# Altium footprint library MLACHT_Z.PCBLIB: 150 footprints (part 5 of 10)
Each footprint in its own frame and in the unit in brackets; x right, y up, seen from the top. Pads: shape width x height; smd on the part's side, far side on the other; paste and mask are expansions set on the pad; w line width, h text height; cw(c..) or ccw(c..) is an arc to the next point about the centre after c.
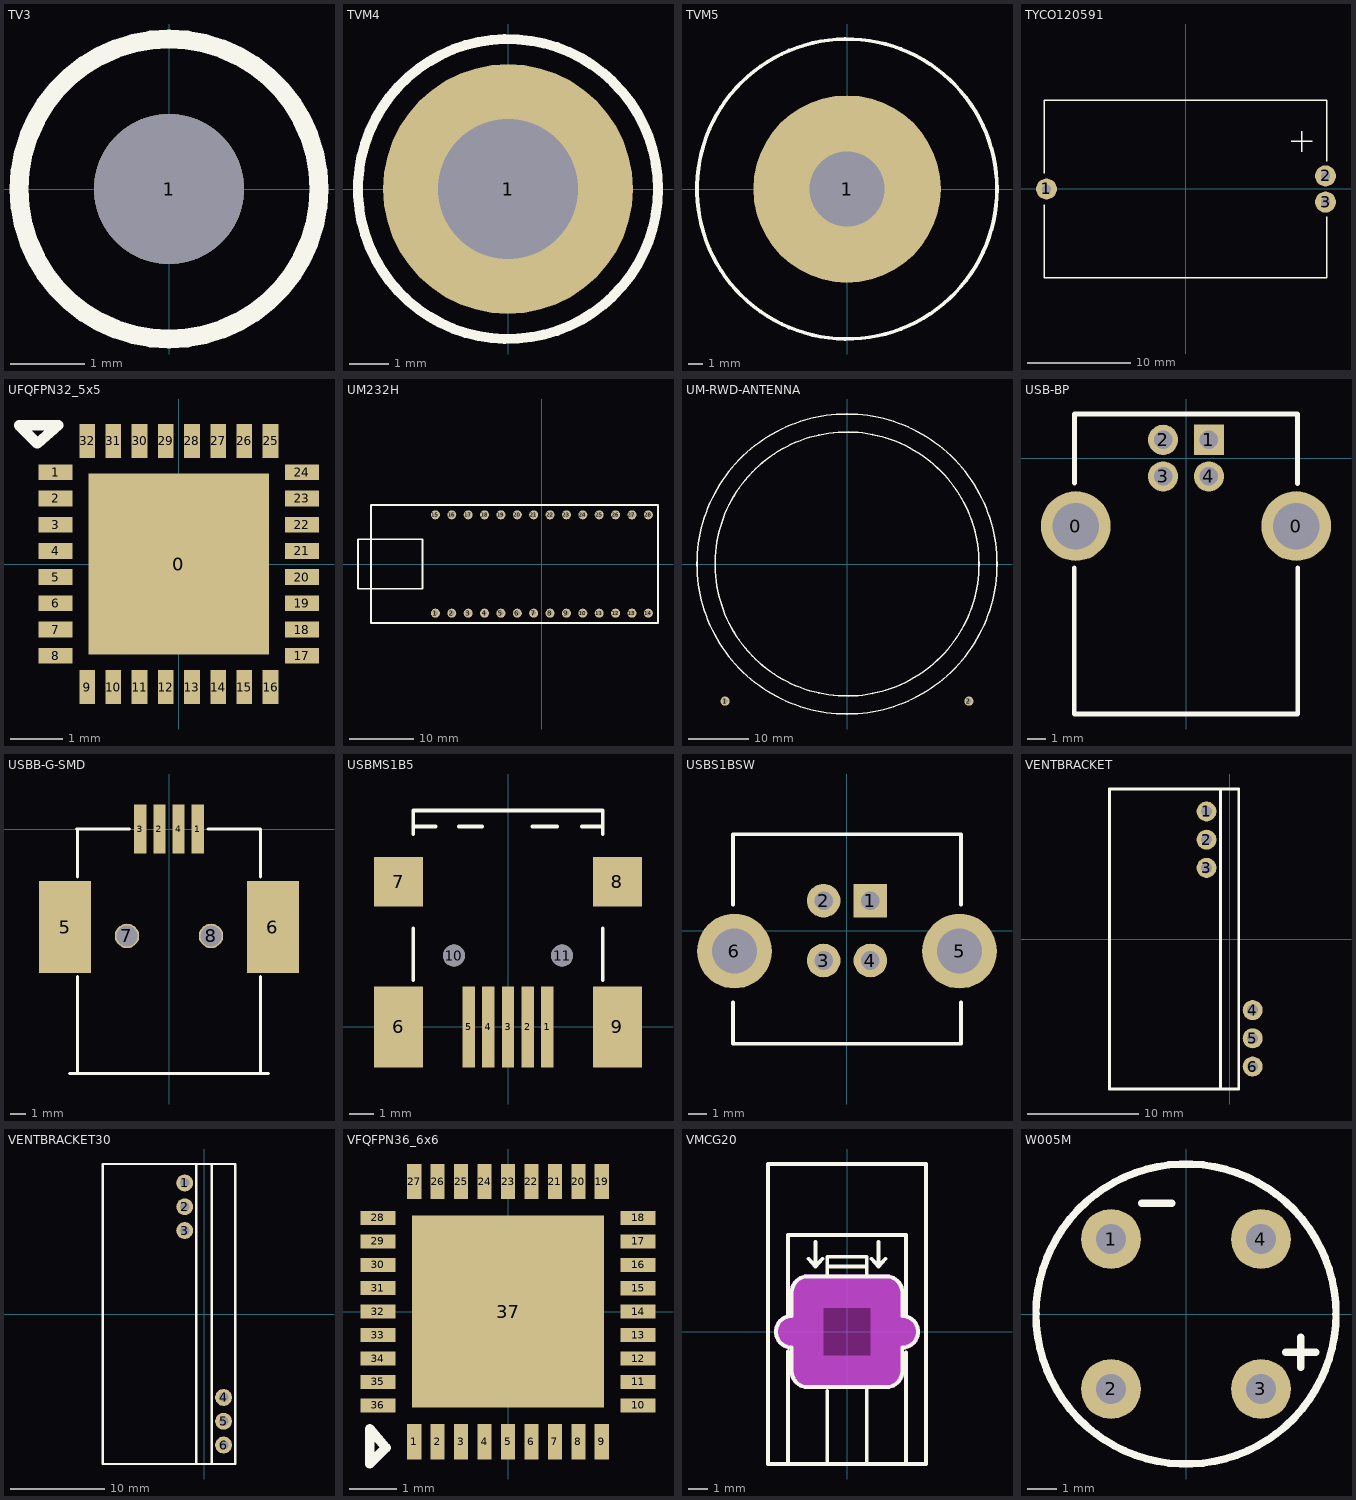
[diagram p4: the footprints below, top view; thin cyan lines are the x and y axes]

## TV3 [mil]
pads (1):
  round 80 hole 80: 1(0,0)
TopOverlay:
  circle w10: c0,0 r80

## TVM4 [mil]
pads (1):
  round 250 hole 140: 1(0,0)
TopOverlay:
  circle w10: c0,0 r150

## TVM5 [mil]
pads (1):
  round 500 hole 200: 1(0,0)
TopOverlay:
  circle w10: c0,0 r400

## TYCO120591 [mil]
pads (3):
  round 80 hole 35: 1(-531.5,0) 2(531.5,50) 3(531.5,-50)
TopOverlay:
  lines w5: -539.37,-59.06 -539.37,-338.58 535.43,-338.58 535.43,-106.3 ; -539.37,59.06 -539.37,338.58 535.43,338.58 535.43,106.3 ; 401.57,181.1 480.31,181.1 ; 440.94,141.73 440.94,220.47

## UFQFPN32_5x5 [mm]
pads (33):
  rect 3.45x3.45 smd paste-0.1: 0(0,0)
  rect 0.65x0.3 smd: 1(-2.35,1.75) 2(-2.35,1.25) 3(-2.35,0.75) 4(-2.35,0.25) 5(-2.35,-0.25) 6(-2.35,-0.75) 7(-2.35,-1.25) 8(-2.35,-1.75) 17(2.35,-1.75) 18(2.35,-1.25) 19(2.35,-0.75) 20(2.35,-0.25) 21(2.35,0.25) 22(2.35,0.75) 23(2.35,1.25) 24(2.35,1.75)
  rect 0.3x0.65 smd: 9(-1.75,-2.35) 10(-1.25,-2.35) 11(-0.75,-2.35) 12(-0.25,-2.35) 13(0.25,-2.35) 14(0.75,-2.35) 15(1.25,-2.35) 16(1.75,-2.35) 25(1.75,2.35) 26(1.25,2.35) 27(0.75,2.35) 28(0.25,2.35) 29(-0.25,2.35) 30(-0.75,2.35) 31(-1.25,2.35) 32(-1.75,2.35)
TopOverlay:
  lines w0.2: -3.05,2.65 -2.7,2.3 -2.3,2.65 -3.05,2.65
3D body: height 1, standoff 0, extent -2.5,-2.5 2.5,2.5

## UM232H [mm]
pads (28):
  round 1.4 hole 0.8: 1(-16.51,-7.62) 2(-13.97,-7.62) 3(-11.43,-7.62) 4(-8.89,-7.62) 5(-6.35,-7.62) 6(-3.81,-7.62) 7(-1.27,-7.62) 8(1.27,-7.62) 9(3.81,-7.62) 10(6.35,-7.62) 11(8.89,-7.62) 12(11.43,-7.62) 13(13.97,-7.62) 14(16.51,-7.62) 15(-16.51,7.62) 16(-13.97,7.62) 17(-11.43,7.62) 18(-8.89,7.62) 19(-6.35,7.62) 20(-3.81,7.62) 21(-1.27,7.62) 22(1.27,7.62) 23(3.81,7.62) 24(6.35,7.62) 25(8.89,7.62) 26(11.43,7.62) 27(13.97,7.62) 28(16.51,7.62)
TopOverlay:
  lines w0.25: -28.51,-3.85 -18.51,-3.85 -18.51,0 -18.51,3.85 -28.51,3.85 -28.51,-3.85
  lines w0.3: -26.51,-9.125 -26.51,9.125 18.01,9.125 18.01,-9.125 -26.51,-9.125
3D body: height 5.7, standoff -3, extent -16.91,7.24 -16.11,8.02
3D body: height 5.7, standoff -3, extent -14.37,7.24 -13.57,8.02
3D body: height 5.7, standoff -3, extent -11.83,7.24 -11.03,8.02
3D body: height 5.7, standoff -3, extent -9.29,7.24 -8.49,8.02
3D body: height 5.7, standoff -3, extent -6.75,7.24 -5.95,8.02
3D body: height 5.7, standoff -3, extent -4.21,7.24 -3.41,8.02
3D body: height 5.7, standoff -3, extent -1.67,7.24 -0.87,8.02
3D body: height 5.7, standoff -3, extent 0.87,7.24 1.67,8.02
3D body: height 5.7, standoff -3, extent 3.41,7.24 4.21,8.02
3D body: height 5.7, standoff -3, extent 5.95,7.24 6.75,8.02
3D body: height 5.7, standoff -3, extent 8.49,7.24 9.29,8.02
3D body: height 5.7, standoff -3, extent 11.03,7.24 11.83,8.02
3D body: height 5.7, standoff -3, extent 13.57,7.24 14.37,8.02
3D body: height 5.7, standoff -3, extent 16.11,7.24 16.91,8.02
3D body: height 5.7, standoff -3, extent 16.11,-8 16.91,-7.22
3D body: height 5.7, standoff -3, extent 13.57,-8 14.37,-7.22
3D body: height 5.7, standoff -3, extent 11.03,-8 11.83,-7.22
3D body: height 5.7, standoff -3, extent 8.49,-8 9.29,-7.22
3D body: height 5.7, standoff -3, extent 5.95,-8 6.75,-7.22
3D body: height 5.7, standoff -3, extent 3.41,-8 4.21,-7.22
3D body: height 5.7, standoff -3, extent 0.87,-8 1.67,-7.22
3D body: height 5.7, standoff -3, extent -1.67,-8 -0.87,-7.22
3D body: height 5.7, standoff -3, extent -4.21,-8 -3.41,-7.22
3D body: height 5.7, standoff -3, extent -6.75,-8 -5.95,-7.22
3D body: height 5.7, standoff -3, extent -9.29,-8 -8.49,-7.22
3D body: height 5.7, standoff -3, extent -11.83,-8 -11.03,-7.22
3D body: height 5.7, standoff -3, extent -14.37,-8 -13.57,-7.22
3D body: height 5.7, standoff -3, extent -16.91,-8 -16.11,-7.22
3D body: height 9.9, standoff 5.8, extent -28.51,-3.85 -18.51,3.85
3D body: height 7.5, standoff 5.8, extent -3.425,-3.425 3.475,3.475
3D body: height 5.8, standoff 4.2, extent -26.51,-9.125 18.01,9.125

## UM-RWD-ANTENNA [mil]
pads (2):
  round 60 hole 32: 1(-800,-900) 2(800,-900)
TopOverlay:
  circle w10: c0,0 r866.14
  circle w10: c0,0 r984.25

## USB-BP [mil]
pads (6):
  round 150 hole 100: 0(-237.8,-146.06) 0(236.22,-146.06)
  rect 65x65 hole 40: 1(48.42,39.37)
  round 65 hole 40: 2(-50,39.37) 3(-50,-39.37) 4(48.42,-39.37)
TopOverlay:
  lines w10: -240.94,-235.83 -240.94,-550.39 239.37,-550.39 239.37,-235.83 ; -240.55,-54.33 -240.55,94.88 238.98,94.88 238.98,-54.72

## USBB-G-SMD [mm]
pads (8):
  rect 0.8x3.2 smd: 1(1.875,0) 2(-0.625,0) 3(-1.875,0) 4(0.625,0)
  rect 3.4x6.04 smd: 5(-6.8,-6.42) 6(6.8,-6.42)
  round 1.6 hole 1.4: 7(-2.75,-7) 8(2.75,-7)
TopOverlay:
  lines w0.203: -6.5,-16 6.5,-16 ; -6.05,0 -2.6,0 ; -6,-16 -6,-9.65 ; -6,-3.15 -6,0 ; 2.55,0 6,0 6,-3.15 ; 6,-16 6,-9.65

## USBMS1B5 [mm]
pads (11):
  rect 0.5x3.3 smd: 1(1.6,0) 2(0.8,0) 3(0,0) 4(-0.8,0) 5(-1.6,0)
  rect 1.981x3.302 smd: 6(-4.45,0) 9(4.45,0)
  rect 1.981x2 smd: 7(-4.45,5.9) 8(4.45,5.9)
  round 0.889 hole 0.889: 10(-2.2,2.9) 11(2.2,2.9)
TopOverlay:
  lines w0.152: -3.85,1.9 -3.85,4 ; -3.85,7.85 -3.85,8.15 ; -2.95,8.15 -3.85,8.15 ; -2,8.15 -1.05,8.15 ; 1,8.15 2,8.15 ; 3,8.15 3.85,8.15 ; 3.85,1.9 3.85,4 ; 3.85,7.85 3.85,8.15 ; -3.85,8.15 -3.85,8.8 3.85,8.8 3.85,8.15
3D body: height 4.14, standoff -0.95, extent -4.95,-0.4 4.95,8.8

## USBS1BSW [mm]
pads (6):
  rect 1.8x1.8 hole 1: 1(1.25,1.6)
  round 1.8 hole 1: 2(-1.25,1.6) 3(-1.25,-1.6) 4(1.25,-1.6)
  round 4 hole 2.4: 5(6.02,-1.1) 6(-6.02,-1.1)
TopOverlay:
  lines w0.2: -6.1,-3.85 -6.1,-6.05 6.1,-6.05 6.1,-3.85 ; -6.1,1.4 -6.1,5.15 6.1,5.15 6.1,1.4
3D body: height 16.05, standoff 0, extent 0,-0.85 6.1,5.15
3D body: height 16.05, standoff 0, extent -6.1,-0.85 0,5.15
3D body: height 16.05, standoff 0, extent -6.1,-6.05 0,-0.05
3D body: height 16.05, standoff 0, extent 0,-6.05 6.1,-0.05
3D body: height 14, standoff 0, extent -2.9,-1.6 2.85,1.6
3D body: height 4, standoff 0, extent -6,-5.95 6,5.05
3D body: height 13.5, standoff 0, extent -1.55,-1.75 -0.9,-1.6
3D body: height 13.5, standoff 0, extent 0.95,-1.75 1.6,-1.6
3D body: height 13.5, standoff 0, extent 0.9,1.6 1.55,1.75
3D body: height 13.5, standoff 0, extent -1.6,1.6 -0.95,1.75

## VENTBRACKET [mm]
pads (6):
  round 1.8 hole 1: 1(-2.075,11.48) 2(-2.075,8.94) 3(-2.075,6.4) 4(2.075,-6.4) 5(2.075,-8.94) 6(2.075,-11.48)
TopOverlay:
  lines w0.25: -10.825,-13.5 -0.825,-13.5 ; -10.825,13.5 -0.825,13.5 ; -10.815,-13.5 -10.815,13.5 ; -0.825,-13.5 -0.825,13.5 ; -0.825,-13.5 0.825,-13.5 0.825,13.5 -0.825,13.5
3D body: height 32.93, standoff -5.91, extent -10.815,-13.5 3.382,13.5

## VENTBRACKET30 [mm]
pads (6):
  round 1.8 hole 1: 1(-2.075,13.98) 2(-2.075,11.44) 3(-2.075,8.9) 4(2.075,-8.9) 5(2.075,-11.44) 6(2.075,-13.98)
TopOverlay:
  lines w0.25: -10.825,-16 -0.825,-16 ; -10.825,16 -0.825,16 ; -10.815,-16 -10.815,16 ; -0.825,-16 0.825,-16 ; -0.825,-16 -0.825,16 ; -0.825,16 0.825,16 ; 0.825,-16 3.33,-16 3.33,16 0.825,16 ; 0.825,-16 0.825,16
3D body: height 37.9, standoff -5.94, extent -10.8,-16 3.345,16

## VFQFPN36_6x6 [mm]
pads (37):
  rect 0.3x0.75 smd: 1(-2,-2.775) 2(-1.5,-2.775) 3(-1,-2.775) 4(-0.5,-2.775) 5(0,-2.775) 6(0.5,-2.775) 7(1,-2.775) 8(1.5,-2.775) 9(2,-2.775) 19(2,2.775) 20(1.5,2.775) 21(1,2.775) 22(0.5,2.775) 23(0,2.775) 24(-0.5,2.775) 25(-1,2.775) 26(-1.5,2.775) 27(-2,2.775)
  rect 0.75x0.3 smd: 10(2.775,-2) 11(2.775,-1.5) 12(2.775,-1) 13(2.775,-0.5) 14(2.775,0) 15(2.775,0.5) 16(2.775,1) 17(2.775,1.5) 18(2.775,2) 28(-2.775,2) 29(-2.775,1.5) 30(-2.775,1) 31(-2.775,0.5) 32(-2.775,0) 33(-2.775,-0.5) 34(-2.775,-1) 35(-2.775,-1.5) 36(-2.775,-2)
  rect 4.1x4.1 smd: 37(0,0)
TopOverlay:
  lines w0.2: -2.95,-3.25 -2.6,-2.9 -2.95,-2.5 -2.95,-3.25
3D body: height 1, standoff 0, extent -3,-3 3,3

## VMCG20 [mil]
TopOverlay:
  lines w7.87: -118.11,-263.78 -118.11,-39.37 ; -118.11,35.43 -118.11,192.91 118.11,192.91 118.11,35.43 ; -76.77,145.67 -62.99,129.92 ; -62.99,179.13 -62.99,129.92 ; -49.21,145.67 -62.99,129.92 ; -39.37,-263.78 -39.37,-118.11 ; -39.37,114.17 -39.37,149.61 39.37,149.61 39.37,114.17 ; -39.37,129.92 39.37,129.92 ; 39.37,-263.78 39.37,-116.14 ; 49.21,145.67 62.99,129.92 ; 62.99,179.13 62.99,129.92 ; 76.77,145.67 62.99,129.92 ; 118.11,-263.78 118.11,-41.34 ; -110.24,31.5 ccw(c-110.24,0) -110.24,-31.5 -110.24,-78.74 ccw(c-78.74,-78.74) -78.74,-110.24 78.74,-110.24 ccw(c78.74,-78.74) 110.24,-78.74 110.24,-31.5 ; -110.24,31.5 -110.24,31.5 ; -110.24,31.5 -110.24,78.74 cw(c-78.74,78.74) -78.74,110.24 78.74,110.24 cw(c78.74,78.74) 110.24,78.74 110.24,31.5 cw(c110.24,0) 110.24,-31.5 ; 110.24,-31.5 110.24,-31.5 ; -157.48,-263.78 -157.48,334.65 157.48,334.65 157.48,-263.78 -157.48,-263.78
KeepOutLayer:
  board cut-out: -110.24,78.74 -108.27,90.55 -102.36,100.39 -96.46,106.3 -88.58,110.24 -78.74,110.24 78.74,110.24 94.49,106.3 104.33,96.46 108.27,88.58 110.24,78.74 110.24,31.5 120.08,29.53 129.92,23.62 137.8,15.75 141.73,5.91 141.73,-1.97 139.76,-13.78 135.83,-19.68 125.98,-27.56 110.24,-31.5 110.24,-78.74 108.27,-90.55 102.36,-100.39 94.49,-106.3 78.74,-110.24 -78.74,-110.24 -90.55,-108.27 -100.39,-102.36 -106.3,-94.49 -110.24,-78.74 -110.24,-31.5 -120.08,-29.53 -131.89,-23.62 -139.76,-13.78 -141.73,0 -141.73,7.87 -135.83,19.68 -120.08,29.53 -110.24,31.5
  lines w7.87: -110.24,-78.74 ccw(c-78.74,-78.74) -78.74,-110.24 78.74,-110.24 ccw(c78.74,-78.74) 110.24,-78.74 110.24,-31.5 ccw(c110.24,0) 110.24,31.5 110.24,78.74 ccw(c78.74,78.74) 78.74,110.24 -78.74,110.24 ccw(c-78.74,78.74) -110.24,78.74 -110.24,31.5 ccw(c-110.24,0) -110.24,-31.5 -110.24,-78.74
Obrys:
  lines w7.87: -110.24,-78.74 ccw(c-78.74,-78.74) -78.74,-110.24 78.74,-110.24 ccw(c78.74,-78.74) 110.24,-78.74 110.24,-31.5 ccw(c110.24,0) 110.24,31.5 110.24,78.74 ccw(c78.74,78.74) 78.74,110.24 -78.74,110.24 ccw(c-78.74,78.74) -110.24,78.74 -110.24,31.5 ccw(c-110.24,0) -110.24,-31.5 -110.24,-78.74
Mill (Mech19):
  lines w62.99: -108.27,0 -78.74,0 ; 78.74,0 108.27,0 ; -78.74,-78.74 78.74,-78.74 78.74,78.74 -78.74,78.74 -78.74,-78.74
3D body: height 846.46, standoff -157.48, extent -157.48,-263.78 157.48,334.65

## W005M [mil]
pads (4):
  round 80 hole 40: 1(-100,100) 2(-100,-100) 3(100,-100) 4(100,100)
TopOverlay:
  circle w10: c0,0 r200
  lines w10: -59.06,147.64 -19.06,147.64 ; 132.87,-51.06 172.87,-51.06 ; 152.87,-71.06 152.87,-31.06